# Altium integrated library ClockMatrix.IntLib: 16 symbols
Pins are listed as number, name and electrical type; pins without a type are passive.

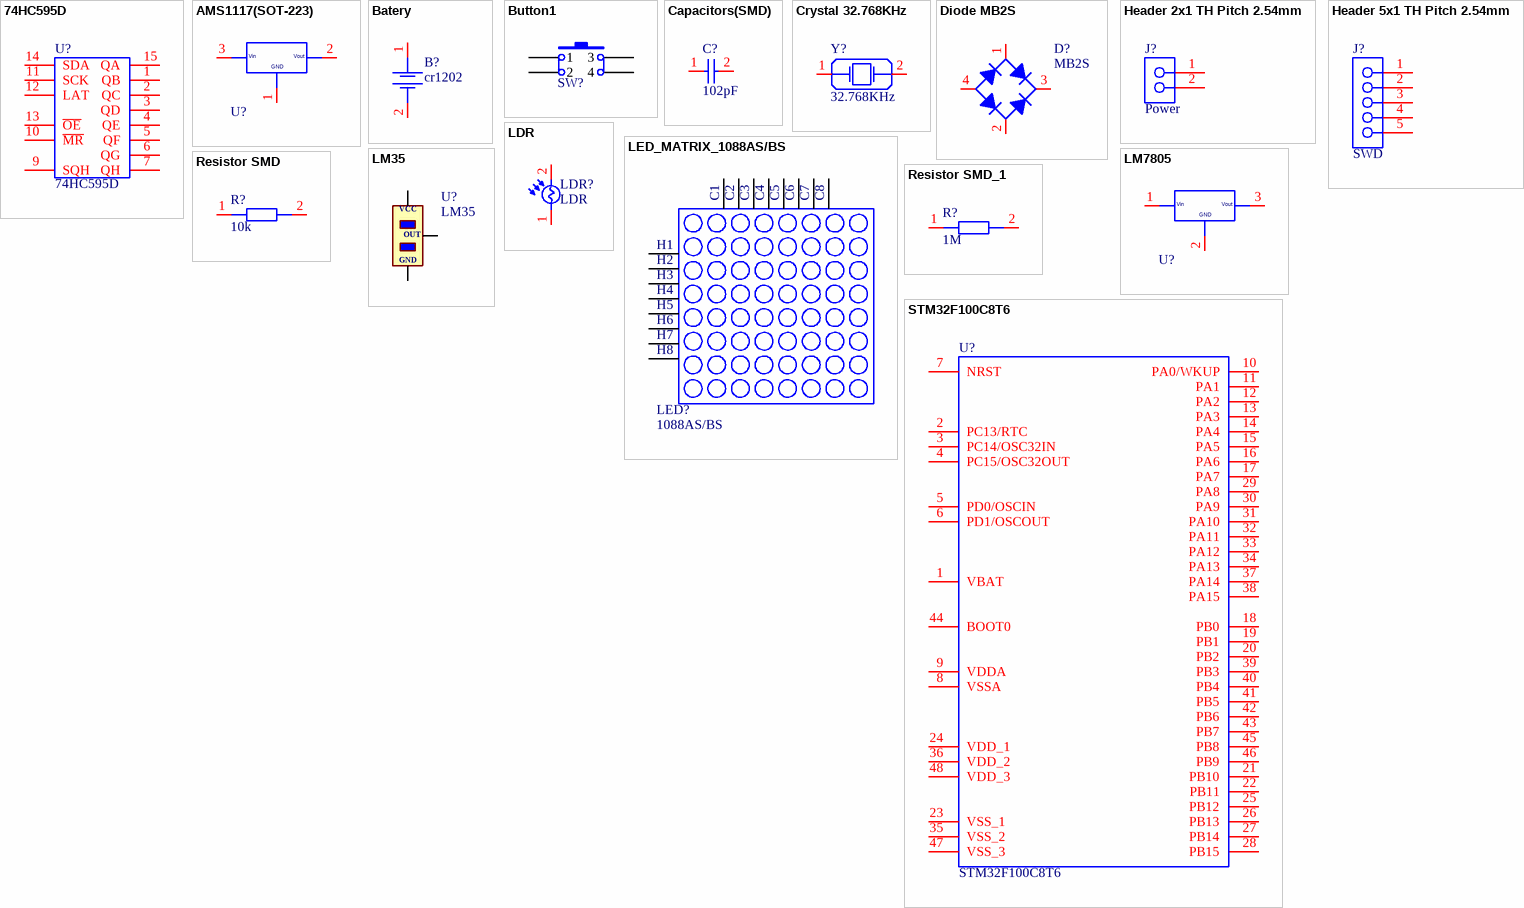
[diagram p0: symbols 74HC595D to STM32F100C8T6]

## 74HC595D
designator U?
footprint SO16
pins: 1 QB, 2 QC, 3 QD, 4 QE, 5 QF, 6 QG, 7 QH, 8 hidden to GND, 9 SQH "OUTPUT", 10 ~{MR} "OUTPUT", 11 SCK "OUTPUT", 12 LAT "OUTPUT", 13 ~{OE} "OUTPUT", 14 SDA "OUTPUT", 15 QA, 16 hidden to VCC

## AMS1117(SOT-223)
designator U?, comment AMS1117  (value not drawn)
footprint SOT223-3
pins: 1, 2, 3
text: Vin; Vout; GND

## Batery
designator B?, comment cr1202
footprint CR1220
pins: 1, 2

## Button1
designator SW?  (value not drawn)
footprint BUTTON_HOLE_4.3mm
footprint BUTTON_HOLE_5.0mm
footprint BUTTON_HOLE_7.0mm
footprint BUTTON_HOLE_7.3mm
footprint BUTTON_HOLE_7.5mm
footprint BUTTON_HOLE_8.0mm
footprint BUTTON_HOLE_9.5mm
footprint BUTTON_HOLE_11.0mm
footprint BUTTON_HOLE_12.0mm
footprint BUTTON_HOLE_13.0mm
footprint BUTTON_HOLE_15.0mm
footprint BUTTON_HOLE_17.0mm
footprint BUTTON_HOLE_18.0mm
footprint BUTTON_HOLE_20.0mm
footprint BUTTON_HOLE_22.0mm
footprint BUTTON_HOLE_26.0mm
pins: 1, 2, 3, 4

## Capacitors(SMD)
designator C?, comment 102pF
footprint C0201
footprint C0402
footprint C0603
footprint C0805
footprint C1206
footprint C1808
footprint C1812
pins: 1, 2

## Crystal 32.768KHz
designator Y?, comment 32.768KHz
footprint DT-26
pins: 1, 2

## Diode MB2S
designator D?, comment MB2S
footprint TO-269AA
pins: 1, 2, 3, 4

## Header 2x1 TH Pitch 2.54mm
designator J?, comment Power
footprint Header 2x1 TH Pitch 2.54mm
pins: 1, 2

## Header 5x1 TH Pitch 2.54mm
designator J?, comment SWD
footprint Header 5x1 TH Pitch 2.54mm
pins: 1, 2, 3, 4, 5

## LDR
designator LDR?
footprint LDR_CELL_THRU_HOLE
pins: 1, 2

## LED_MATRIX_1088AS/BS
designator LED?, comment 1088AS/BS
footprint LED_MATRIX_1088AS/BS
pins: 1, 2, 3, 4, 5, 6, 7, 8, 9, 10, 11, 12, 13, 14, 15, 16
text: C1; C2; C3; C4; C5; C6; C7; C8; H1; H2; H3; H4; H5; H6; H7; H8

## LM35
designator U?
footprint TO92A
pins: 1 VCC, 2 OUT, 3 GND

## LM7805
designator U?  (value not drawn)
footprint TO252-3
footprint TO220A_WITH_HEATSINK
pins: 1, 2, 3 2
text: Vin; Vout; GND

## Resistor SMD
designator R?, comment 10k
footprint R0603
footprint R0805
footprint R1206
footprint R2010
footprint R2512
pins: 1, 2

## Resistor SMD_1
designator R?, comment 1M
footprint R0603
footprint R0805
footprint R1206
footprint R2010
footprint R2512
pins: 1, 2

## STM32F100C8T6
designator U?
footprint LQFP048_FPT-48P-M05
pins: 1 VBAT, 2 PC13/RTC, 3 PC14/OSC32IN, 4 PC15/OSC32OUT, 5 PD0/OSCIN, 6 PD1/OSCOUT, 7 NRST, 8 VSSA, 9 VDDA, 10 PA0/WKUP, 11 PA1, 12 PA2, 13 PA3, 14 PA4, 15 PA5, 16 PA6, 17 PA7, 18 PB0, 19 PB1, 20 PB2, 21 PB10, 22 PB11, 23 VSS_1, 24 VDD_1, 25 PB12, 26 PB13, 27 PB14, 28 PB15, 29 PA8, 30 PA9, 31 PA10, 32 PA11, 33 PA12, 34 PA13, 35 VSS_2, 36 VDD_2, 37 PA14, 38 PA15, 39 PB3, 40 PB4, 41 PB5, 42 PB6, 43 PB7, 44 BOOT0, 45 PB8, 46 PB9, 47 VSS_3, 48 VDD_3